# Altium footprint library TE_282837 - 2.PcbLib: 1 footprints
Each footprint in its own frame and in the unit in brackets; x right, y up, seen from the top. Pads: shape width x height; smd on the part's side, far side on the other; paste and mask are expansions set on the pad; w line width, h text height; cw(c..) or ccw(c..) is an arc to the next point about the centre after c.
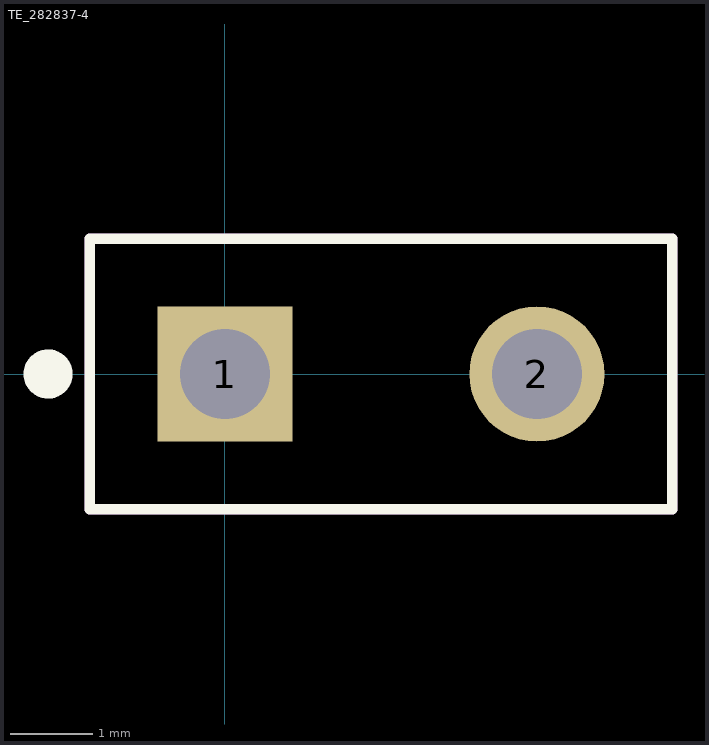
[diagram p0: the footprint, top view; thin cyan lines are the x and y axes]

## TE_282837-4 [mm]
pads (2):
  rect 1.65x1.65 / inner round 1.65 / far side rect 1.65x1.65 hole 1.1: 1(0,0)
  round 1.65 hole 1.1: 2(3.81,0)
Top Overlay:
  circle w0.3: c-2.159,0 r0.15
  lines w0.127: -1.651,-1.651 5.461,-1.651 5.461,1.651 -1.651,1.651 -1.651,-1.651
Mechanical 13:
  circle w0.3: c0,0 r0.15
  lines w0.127: -1.651,-1.651 5.461,-1.651 5.461,1.651 -1.651,1.651 -1.651,-1.651
Mechanical 15:
  lines w0.05: -1.651,-1.651 -1.651,1.651 5.461,1.651 5.461,-1.651 -1.651,-1.651